# Altium schematic symbol library ti-opamp.SchLib: 45 symbols
Pins are listed as number, name and electrical type; pins without a type are passive.

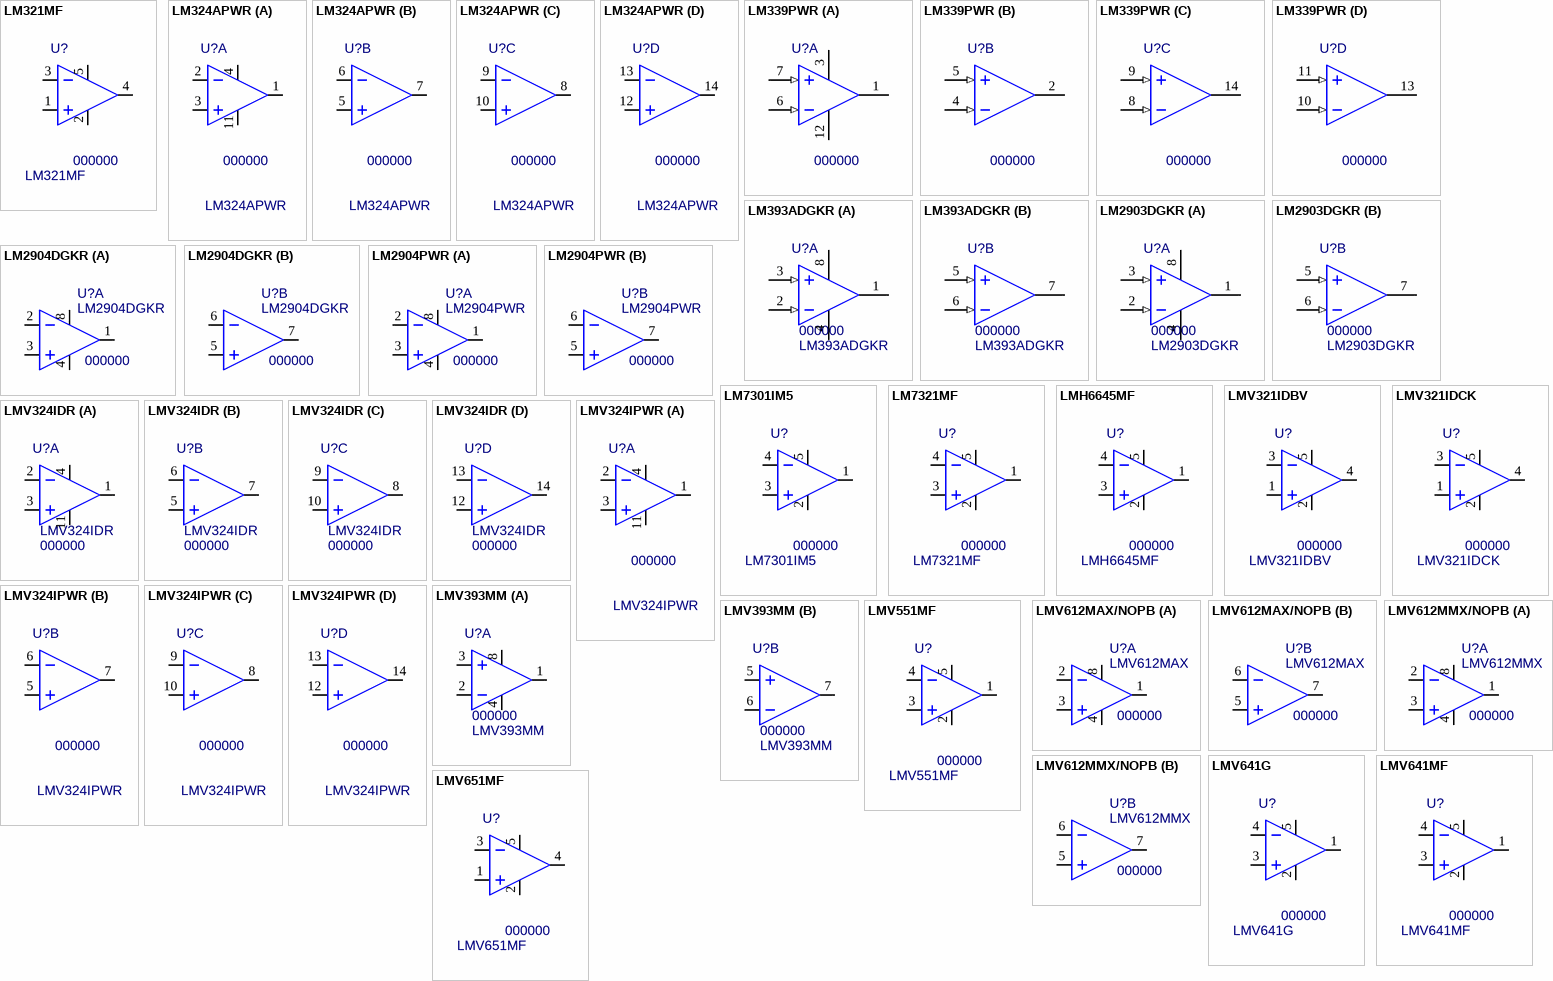
[diagram p0: symbols LM321MF to LMV651MF]

## LM321MF
designator U?, comment 000000  value LM321MF
1MHz, 32V Operational Amplifiers; MF: Texas Instruments; Package: SOT23-5; PN: 000000; ExtraInfo: *
simulation model LM324/NS (SUBCKT)
footprint DBV (R-PDSO-G5) (SOT23, 5-Leads, Body 3.0x3.0mm (max), Pitch 0.95mm, IPC High Density)
pins: 1 IN+, 2 V- (power), 3 IN-, 4 OUT, 5 V+ (power)

## LM324APWR
designator U?, comment 000000  value LM324APWR
Quad General Purpose 1.2MHz Operational Amplifiers; MF: Texas Instruments; PN: 000000; Package: 14-TSSOP; ExtraInfo: *; MF PN: LM324APWR; Digi-Key PN: 296-9544-1-ND; Price: 0.10725
footprint PW (R-PDSO-G14) (TSOP, 14-Leads, Body 5.1x4.5mm (max), Pitch 0.65mm, IPC Medium Density)
footprint PW (R-PDSO-G14) L (TSOP, 14-Leads, Body 5.1x4.5mm (max), Pitch 0.65mm, IPC High Density)
part A pins: 1 1OUT, 2 1IN-, 3 1IN+, 4 VCC+ (power), 11 GND (power)
part B pins: 5 2IN+, 6 2IN-, 7 2OUT
part C pins: 8 3OUT, 9 3IN-, 10 3IN+
part D pins: 12 4IN+, 13 4IN-, 14 4OUT

## LM339PWR
designator U?, comment 000000
Quad Differential Comparator; Value: LM339PWR; MF: Texas Instruments; Package: SOT23; PN: 000000; ExtraInfo: *
footprint PW (R-PDSO-G14) (TSOP, 14-Leads, Body 5.1x4.5mm (max), Pitch 0.65mm, IPC Medium Density)
part A pins: 1 1OUT (oc), 3 VCC (power), 6 1IN- (in), 7 1IN+ (in), 12 GND (power)
part B pins: 2 2OUT (oc), 4 2IN- (in), 5 2IN+ (in)
part C pins: 8 3IN- (in), 9 3IN+ (in), 14 3OUT (oc)
part D pins: 10 4IN- (in), 11 4IN+ (in), 13 4OUT (oc)

## LM393ADGKR
designator U?, comment 000000  value LM393ADGKR
Dual Differential Comparator; MF: Texas Instruments; Package: 8-MSOP; PN: 000000; ExtraInfo: *
footprint DGK (S-PDSO-G8) (8-MSOP)
part A pins: 1 1OUT (oc), 2 1IN- (in), 3 1IN+ (in), 4 GND (power), 8 VCC (power)
part B pins: 5 2IN+ (in), 6 2IN- (in), 7 2OUT (oc)

## LM2903DGKR
designator U?, comment 000000  value LM2903DGKR
Dual Differential Comparator; MF: Texas Instruments; Package: SOT23; PN: 000000; ExtraInfo: *
footprint DGK (R-PDSO-G8) (8-MSOP)
part A pins: 1 1OUT (oc), 2 1IN- (in), 3 1IN+ (in), 4 GND (power), 8 VCC (power)
part B pins: 5 2IN+ (in), 6 2IN- (in), 7 2OUT (oc)

## LM2904DGKR
designator U?, comment 000000  value LM2904DGKR
Dual Operational Amplifier, 0.7MHz; MF: Texas Instruments; Package: 8-VSSOP; PN: 000000; ExtraInfo: *; MF PN: LM2904DGKR
footprint DGK (S-PDSO-G8) M (8-MSOP)
part A pins: 1 OUTA, 2 -INA, 3 +INA, 4 V- (power), 8 V+ (power)
part B pins: 5 +INB, 6 -INB, 7 OUTB

## LM2904PWR
designator U?, comment 000000  value LM2904PWR
Dual Operational Amplifier, 0.7MHz; MF: Texas Instruments; Package: 8-TSSOP; PN: 000000; ExtraInfo: *; MF PN: LM2904PWR
footprint PW (R-PDSO-G8) M (TSOP, 8-Leads, Body 3.1x4.5mm (max), Pitch 0.65mm, IPC Medium Density)
part A pins: 1 OUTA, 2 -INA, 3 +INA, 4 V- (power), 8 V+ (power)
part B pins: 5 +INB, 6 -INB, 7 OUTB

## LM7301IM5
designator U?, comment 000000  value LM7301IM5
4 MHz GBW, Rail-to-Rail Input-Output Operational Amplifier; MF: Texas Instruments; Package: SOT23-5; PN: 000000; ExtraInfo: *
simulation model LM7301/NS (SUBCKT)
footprint DBV (R-PDSO-G5) (SOT23, 5-Leads, Body 3.0x3.0mm (max), Pitch 0.95mm, IPC High Density)
pins: 1 OUT, 2 V- (power), 3 IN+, 4 IN-, 5 V+ (power)

## LM7321MF
designator U?, comment 000000  value LM7321MF
20MHz Rail-to-Rail Input/Output ±15V, High  Output Current and Unlimited Capacitive Load Operational Amplifier; MF: Texas Instruments; Package: SOT23-5; PN: 000000; ExtraInfo: *
simulation model LM7321 (SUBCKT)
footprint DBV (R-PDSO-G5) (SOT23, 5-Leads, Body 3.0x3.0mm (max), Pitch 0.95mm, IPC High Density)
pins: 1 OUT, 2 V- (power), 3 IN+, 4 IN-, 5 V+ (power)

## LMH6645MF
designator U?, comment 000000  value LMH6645MF
55MHz, 650uA, Rail-to-Rail Operational Amplifier; MF: Texas Instruments; Package: SOT23-5; PN: 000000; ExtraInfo: *
simulation model LMH6645 (SUBCKT)
footprint DBV (R-PDSO-G5) (SOT23, 5-Leads, Body 3.0x3.0mm (max), Pitch 0.95mm, IPC High Density)
pins: 1 OUT, 2 V- (power), 3 IN+, 4 IN-, 5 V+ (power)

## LMV321IDBV
designator U?, comment 000000  value LMV321IDBV
General Purpose, Low Voltage, Rail-to-Rail Output Operational Amplifiers; MF: Texas Instruments; Package: SOT23-5; PN: 000000; ExtraInfo: *
simulation model LMV321 (SUBCKT)
footprint DBV (R-PDSO-G5) (SOT23, 5-Leads, Body 3.0x3.0mm (max), Pitch 0.95mm, IPC High Density)
pins: 1 IN+, 2 V- (power), 3 IN-, 4 OUT, 5 V+ (power)

## LMV321IDCK
designator U?, comment 000000  value LMV321IDCK
General Purpose, Low Voltage, Rail-to-Rail Output Operational Amplifiers; MF: Texas Instruments; Package: SOT223-5; PN: 000000; ExtraInfo: *
simulation model LMV321 (SUBCKT)
footprint DCK (R-PDS0-G5) (SOT223, 5-Leads, Body 2.2x2.4mm (max), Pitch 0.65mm, IPC Medium Density)
pins: 1 IN+, 2 V- (power), 3 IN-, 4 OUT, 5 V+ (power)

## LMV324IDR
designator U?, comment 000000  value LMV324IDR
Quad General Purpose, Low Voltage, Rail-to-Rail Output Operational Amplifiers; MF: Texas Instruments; PN: 000000; Package: 14-SOIC; ExtraInfo: *
simulation model LMV321 (SUBCKT)
footprint D (R-PDSO-G14) (Plastic Small Outline 14)
part A pins: 1 1OUT, 2 1IN-, 3 1IN+, 4 VCC+ (power), 11 GND (power)
part B pins: 5 2IN+, 6 2IN-, 7 2OUT
part C pins: 8 3OUT, 9 3IN-, 10 3IN+
part D pins: 12 4IN+, 13 4IN-, 14 4OUT

## LMV324IPWR
designator U?, comment 000000  value LMV324IPWR
Quad General Purpose, Low Voltage, Rail-to-Rail Output Operational Amplifiers; MF: Texas Instruments; PN: 000000; Package: 14-TSSOP; ExtraInfo: *
simulation model LMV321 (SUBCKT)
footprint PW (R-PDSO-G14) (TSOP, 14-Leads, Body 5.1x4.5mm (max), Pitch 0.65mm, IPC Medium Density)
footprint PW (R-PDSO-G14) L (TSOP, 14-Leads, Body 5.1x4.5mm (max), Pitch 0.65mm, IPC High Density)
part A pins: 1 1OUT, 2 1IN-, 3 1IN+, 4 VCC+ (power), 11 GND (power)
part B pins: 5 2IN+, 6 2IN-, 7 2OUT
part C pins: 8 3OUT, 9 3IN-, 10 3IN+
part D pins: 12 4IN+, 13 4IN-, 14 4OUT

## LMV393MM
designator U?, comment 000000  value LMV393MM
Dual Differential Comparator Low Voltage; MF: Texas Instruments; Package: 8-MSOP; PN: 000000; ExtraInfo: *; MF PN: *
footprint DGK (S-PDSO-G8) M (8-MSOP)
part A pins: 1 1OUT (oc), 2 1IN-, 3 1IN+, 4 GND (power), 8 VCC (power)
part B pins: 5 2IN+, 6 2IN-, 7 2OUT (oc)

## LMV551MF
designator U?, comment 000000  value LMV551MF
3 MHz, Micropower RRO Amplifiers; MF: Texas Instruments; Package: SOT23-5; PN: 000000; ExtraInfo: *
footprint DBV (R-PDSO-G5) (SOT23, 5-Leads, Body 3.0x3.0mm (max), Pitch 0.95mm, IPC High Density)
simulation model LMV551 (Rev.a May-2007)
pins: 1 OUT, 2 V- (power), 3 IN+, 4 IN-, 5 V+ (power)

## LMV612MAX/NOPB
designator U?, comment 000000  value LMV612MAX
Dual Operational Amplifier, 1.4MHz, RRIO, Low Power; MF PN: LMV612MAX/NOPB; MF: Texas Instruments; Package: SOIC-8; PN: 000000; ExtraInfo: *
footprint D (R-PDSO-G8) (Plastic Small Outline 8)
part A pins: 1 OUTA, 2 -INA, 3 +INA, 4 V- (power), 8 V+ (power)
part B pins: 5 +INB, 6 -INB, 7 OUTB

## LMV612MMX/NOPB
designator U?, comment 000000  value LMV612MMX
Dual Operational Amplifier, 1.4MHz, RRIO, Low Power; MF PN: LMV612MMX/NOPB; MF: Texas Instruments; Package: 8-VSSOP; PN: 000000; ExtraInfo: *
footprint DGK (S-PDSO-G8) M (8-MSOP)
part A pins: 1 OUTA, 2 -INA, 3 +INA, 4 V- (power), 8 V+ (power)
part B pins: 5 +INB, 6 -INB, 7 OUTB

## LMV641G
designator U?, comment 000000  value LMV641G
10 MHz, Low Voltage, Low Power Amplifiers; MF: Texas Instruments; Package: SC-70; PN: 000000; ExtraInfo: *
footprint DCK (R-PDS0-G5) (SOT223, 5-Leads, Body 2.2x2.4mm (max), Pitch 0.65mm, IPC Medium Density)
simulation model LMV641 (BEGIN MODEL LMV641)
pins: 1 OUT, 2 V- (power), 3 IN+, 4 IN-, 5 V+ (power)

## LMV641MF
designator U?, comment 000000  value LMV641MF
10 MHz, Low Voltage, Low Power Amplifiers; MF: Texas Instruments; Package: SOT23-5; PN: 000000; ExtraInfo: *
footprint DBV (R-PDSO-G5) (SOT23, 5-Leads, Body 3.0x3.0mm (max), Pitch 0.95mm, IPC High Density)
simulation model LMV641 (BEGIN MODEL LMV641)
pins: 1 OUT, 2 V- (power), 3 IN+, 4 IN-, 5 V+ (power)

## LMV651MF
designator U?, comment 000000  value LMV651MF
12 MHz, Low Voltage, Low Power Amplifiers; MF: Texas Instruments; Package: SOT23-5; PN: 000000; ExtraInfo: *
simulation model LMV651 (SUBCKT)
footprint DBV (R-PDSO-G5) (SOT23, 5-Leads, Body 3.0x3.0mm (max), Pitch 0.95mm, IPC High Density)
pins: 1 IN+, 2 V- (power), 3 IN-, 4 OUT, 5 V+ (power)

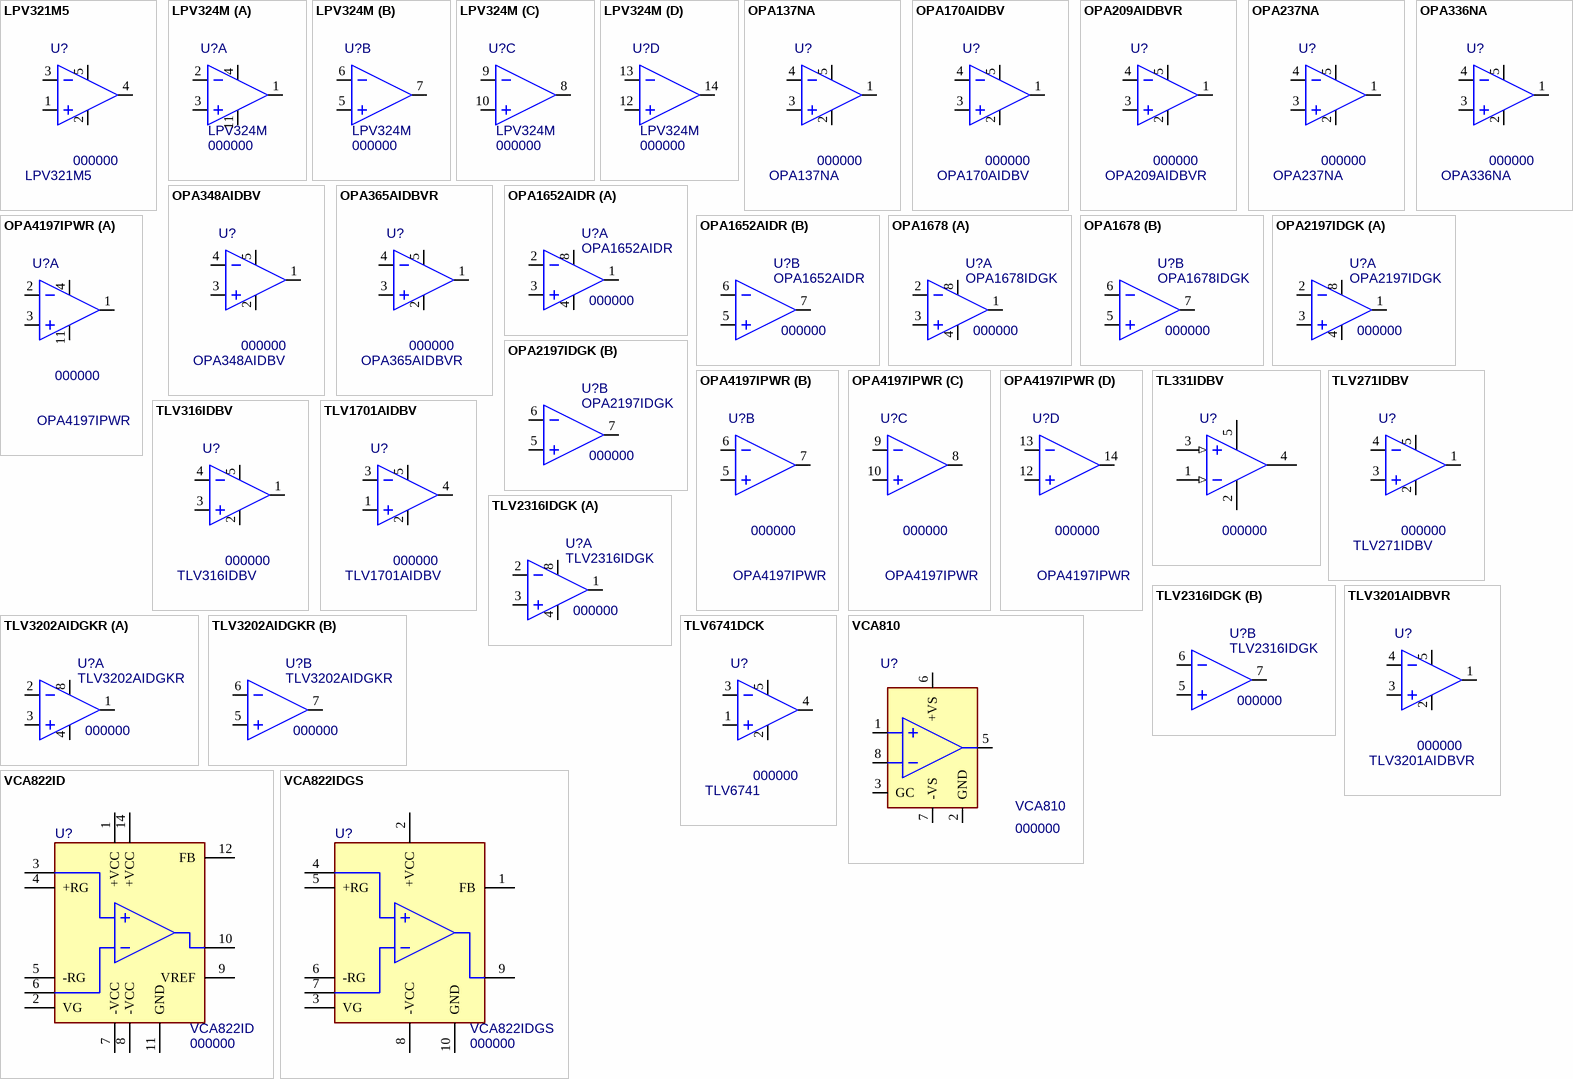
[diagram p1: symbols LPV321M5 to VCA822IDGS]

## LPV321M5
designator U?, comment 000000  value LPV321M5
General Purpose, Low Voltage, Rail-to-Rail Output Operational Amplifiers; MF PN: LPV321M5/NOPB; MF: Texas Instruments; Package: SOT23-5; PN: 000000; ExtraInfo: *
footprint DBV (R-PDSO-G5) M (SOT23, 5-Leads, Body 3.0x3.0mm (max), Pitch 0.95mm, IPC Medium Density)
pins: 1 IN+, 2 V- (power), 3 IN-, 4 OUT, 5 V+ (power)

## LPV324M
designator U?, comment 000000  value LPV324M
Quad Low Power, Low Voltage, Rail-to-Rail Operational Amplifiers; MF PN: LPV324MX/NOPB; MF: Texas Instruments; PN: 000000; Package: 14-SOIC; ExtraInfo: *
simulation model LMV321 (SUBCKT)
footprint D (R-PDSO-G14) (Plastic Small Outline 14)
part A pins: 1 1OUT, 2 1IN-, 3 1IN+, 4 VCC+ (power), 11 GND (power)
part B pins: 5 2IN+, 6 2IN-, 7 2OUT
part C pins: 8 3OUT, 9 3IN-, 10 3IN+
part D pins: 12 4IN+, 13 4IN-, 14 4OUT

## OPA137NA
designator U?, comment 000000  value OPA137NA
1MHz,  Precision, 36V Operational Amplifier; MF: Texas Instruments; Package: SOT23-5; PN: 000000; ExtraInfo: *
simulation model OPA137 (SUBCKT)
footprint DBV (R-PDSO-G5) (SOT23, 5-Leads, Body 3.0x3.0mm (max), Pitch 0.95mm, IPC High Density)
pins: 1 OUT, 2 V- (power), 3 IN+, 4 IN-, 5 V+ (power)

## OPA170AIDBV
designator U?, comment 000000  value OPA170AIDBV
1.2MHz,  Precision, RRO, 36V Operational Amplifier; MF: Texas Instruments; Package: SOT23-5; PN: 000000; ExtraInfo: *
simulation model OPA170 (SUBCKT)
footprint DBV (R-PDSO-G5) (SOT23, 5-Leads, Body 3.0x3.0mm (max), Pitch 0.95mm, IPC High Density)
pins: 1 OUT, 2 V- (power), 3 IN+, 4 IN-, 5 V+ (power)

## OPA209AIDBVR
designator U?, comment 000000  value OPA209AIDBVR
18MHz, Precision, RRO, 36V Operational Amplifier; MF: Texas Instruments; Package: SOT23-5; PN: 000000; ExtraInfo: *
simulation model OPA209_0 (SUBCKT)
footprint DBV (R-PDSO-G5) (SOT23, 5-Leads, Body 3.0x3.0mm (max), Pitch 0.95mm, IPC High Density)
pins: 1 OUT, 2 V- (power), 3 IN+, 4 IN-, 5 V+ (power)

## OPA237NA
designator U?, comment 000000  value OPA237NA
1.5MHz, 36V Operational Amplifier; MF: Texas Instruments; Package: SOT23-5; PN: 000000; ExtraInfo: *
simulation model OPA237 (SUBCKT)
footprint DBV (R-PDSO-G5) (SOT23, 5-Leads, Body 3.0x3.0mm (max), Pitch 0.95mm, IPC High Density)
pins: 1 OUT, 2 V- (power), 3 IN+, 4 IN-, 5 V+ (power)

## OPA336NA
designator U?, comment 000000  value OPA336NA
100KHz, Rail-to-Rail Operational Amplifier; MF: Texas Instruments; Package: SOT23-5; PN: 000000; ExtraInfo: *
simulation model OPA336 (SUBCKT)
footprint DBV (R-PDSO-G5) (SOT23, 5-Leads, Body 3.0x3.0mm (max), Pitch 0.95mm, IPC High Density)
pins: 1 OUT, 2 V- (power), 3 IN+, 4 IN-, 5 V+ (power)

## OPA348AIDBV
designator U?, comment 000000  value OPA348AIDBV
1 MHz, 45uA Low Voltage, RR Operational Amplifier; MF: Texas Instruments; Package: SOT-23; PN: 000000; ExtraInfo: *
footprint DBV (R-PDSO-G5) (SOT23, 5-Leads, Body 3.0x3.0mm (max), Pitch 0.95mm, IPC High Density)
simulation model OPA348
pins: 1 OUT, 2 V- (power), 3 IN+, 4 IN-, 5 V+ (power)

## OPA365AIDBVR
designator U?, comment 000000  value OPA365AIDBVR
50MHz, Low-Distortion, High CMRR,  RRI/O, Single-Supply Operational Amplifier; MF: Texas Instruments; Package: SOT23-5; PN: 000000; ExtraInfo: *
simulation model OPA365 (SUBCKT)
footprint DBV (R-PDSO-G5) (SOT23, 5-Leads, Body 3.0x3.0mm (max), Pitch 0.95mm, IPC High Density)
pins: 1 OUT, 2 V- (power), 3 IN+, 4 IN-, 5 V+ (power)

## OPA1652AIDR
designator U?, comment 000000  value OPA1652AIDR
Dual 18MHz, Audio RRO, 36V Operational Amplifier; MF: Texas Instruments; Package: SOIC-8; PN: 000000; ExtraInfo: *
footprint D (R-PDSO-G8) (Plastic Small Outline 8)
part A pins: 1 OUTA, 2 -INA, 3 +INA, 4 V- (power), 8 V+ (power)
part B pins: 5 +INB, 6 -INB, 7 OUTB

## OPA1678
designator U?, comment 000000  value OPA1678IDGK
Dual 16MHz, RRO, Low Noise, 36V,  Operational Amplifier; MF: Texas Instruments; Package: 8-VSSOP; PN: 000000; ExtraInfo: *; MF PN: OPA1678IDGK; Digi-Key PN: 296-46561-1-ND; Price: 0.54396
footprint DGK (S-PDSO-G8) M (8-MSOP)
part A pins: 1 OUTA, 2 -INA, 3 +INA, 4 V- (power), 8 V+ (power)
part B pins: 5 +INB, 6 -INB, 7 OUTB

## OPA2197IDGK
designator U?, comment 000000  value OPA2197IDGK
Dual Operational Amplifier, 10MHz, RRIO, 36V, Precision; MF: Texas Instruments; Package: 8-VSSOP; PN: 000000; ExtraInfo: *; MF PN: OPA2197IDGK; Digi-Key PN: 296-44071-1-ND; Price: 0.44380
footprint DGK (S-PDSO-G8) M (8-MSOP)
part A pins: 1 OUTA, 2 -INA, 3 +INA, 4 V- (power), 8 V+ (power)
part B pins: 5 +INB, 6 -INB, 7 OUTB

## OPA4197IPWR
designator U?, comment 000000  value OPA4197IPWR
Quad General Purpose 1.2MHz Operational Amplifiers; MF: Texas Instruments; PN: 000000; Package: 14-TSSOP; ExtraInfo: *; MF PN: OPA4197IPWR; Digi-Key PN: 296-45060-1-ND; Price: 1.58004
footprint PW (R-PDSO-G14) (TSOP, 14-Leads, Body 5.1x4.5mm (max), Pitch 0.65mm, IPC Medium Density)
footprint PW (R-PDSO-G14) L (TSOP, 14-Leads, Body 5.1x4.5mm (max), Pitch 0.65mm, IPC High Density)
part A pins: 1 1OUT, 2 1IN-, 3 1IN+, 4 VCC+ (power), 11 GND (power)
part B pins: 5 2IN+, 6 2IN-, 7 2OUT
part C pins: 8 3OUT, 9 3IN-, 10 3IN+
part D pins: 12 4IN+, 13 4IN-, 14 4OUT

## TL331IDBV
designator U?, comment 000000
Single Differential Comparator; Value: TL331IDBV; MF: Texas Instruments; Package: SOT23; PN: 000000; ExtraInfo: *
footprint DBV (R-PDSO-G5) (SOT23, 5-Leads, Body 3.0x3.0mm (max), Pitch 0.95mm, IPC High Density)
pins: 1 IN- (in), 2 GND (power), 3 IN+ (in), 4 OUT (oc), 5 VCC (power)

## TLV271IDBV
designator U?, comment 000000  value TLV271IDBV
3 MHz GBW, 16V Rail-to-Rail Output Operational Amplifier; MF: Texas Instruments; Package: SOT23-5; PN: 000000; ExtraInfo: *
simulation model AMP_TLV27X_HIGHVDD (SUBCKT)
footprint DBV (R-PDSO-G5) (SOT23, 5-Leads, Body 3.0x3.0mm (max), Pitch 0.95mm, IPC High Density)
pins: 1 OUT, 2 V- (power), 3 IN+, 4 IN-, 5 V+ (power)

## TLV316IDBV
designator U?, comment 000000  value TLV316IDBV
10-MHz, Rail-to-Rail Input/Output, Low-Voltage, Operational Amplifier; MF: Texas Instruments; MF PN: TLV316IDBVR; Package: SOT23-5; PN: 000000; ExtraInfo: *; Digi-Key PN: 296-47219-2-ND; Price: 0.30595
footprint DBV (R-PDSO-G5) (SOT23, 5-Leads, Body 3.0x3.0mm (max), Pitch 0.95mm, IPC High Density)
pins: 1 OUT, 2 V- (power), 3 IN+, 4 IN-, 5 V+ (power)

## TLV1701AIDBV
designator U?, comment 000000  value TLV1701AIDBV
Single Comparator, 36V, 55uA, 560ns, Open Collector, Rail-to-Rail; MF PN: TLV1701AIDBVR; Package: SOT-23; PN: 000000; ExtraInfo: *; Digi-Key PN: 296-40599-1-ND; Price: $0.41750
footprint DBV (R-PDSO-G5) (SOT23, 5-Leads, Body 3.0x3.0mm (max), Pitch 0.95mm, IPC High Density)
pins: 1 IN+, 2 V- (power), 3 IN-, 4 OUT, 5 V+ (power)

## TLV2316IDGK
designator U?, comment 000000  value TLV2316IDGK
Dual Operational Amplifier, 10MHz, RRIO, 5V; MF PN: TLV2316IDGKR; MF: Texas Instruments; Package: 8-VSSOP; PN: 000000; ExtraInfo: *
footprint DGK (S-PDSO-G8) M (8-MSOP)
part A pins: 1 OUTA, 2 -INA, 3 +INA, 4 V- (power), 8 V+ (power)
part B pins: 5 +INB, 6 -INB, 7 OUTB

## TLV3201AIDBVR
designator U?, comment 000000  value TLV3201AIDBVR
Single Comparator, Low Power, 40ns, Push-Pull, Rail-to-rail; MF: Texas Instruments; Package: SOT23-5; PN: 000000; ExtraInfo: *
simulation model OPA336 (SUBCKT)
footprint DBV (R-PDSO-G5) (SOT23, 5-Leads, Body 3.0x3.0mm (max), Pitch 0.95mm, IPC High Density)
pins: 1 OUT, 2 V- (power), 3 IN+, 4 IN-, 5 V+ (power)

## TLV3202AIDGKR
designator U?, comment 000000  value TLV3202AIDGKR
Dual Comparator, Low Power, 40ns, Push-Pull, Rail-to-rail; MF: Texas Instruments; Package: VSSOP-8; PN: 000000; ExtraInfo: *
footprint DGK (S-PDSO-G8) (8-MSOP)
part A pins: 1 OUTA, 2 -INA, 3 +INA, 4 V- (power), 8 V+ (power)
part B pins: 5 +INB, 6 -INB, 7 OUTB

## TLV6741DCK
designator U?, comment 000000  value TLV6741
10-MHz, Low Noise, RRO, 5V, Operational Amplifier; MF: Texas Instruments; MF PN: TLV6741DCKT; Package: SOT23-5; PN: 000000; ExtraInfo: *; Digi-Key PN: 296-47564-1-ND; Price: 0.42772
footprint DCK (R-PDS0-G5) (SOT223, 5-Leads, Body 2.2x2.4mm (max), Pitch 0.65mm, IPC Medium Density)
pins: 1 IN+, 2 V- (power), 3 IN-, 4 OUT, 5 V+ (power)

## VCA810
designator U?, comment 000000  value VCA810
High Gain Adjust Range, Wideband,  VARIABLE GAIN AMPLIFIER; MF: Texas Instruments; Package: SOT23-5; PN: 000000; ExtraInfo: *
simulation model VCA810/BB (SUBCKT)
footprint D (R-PDSO-G8) (Plastic Small Outline 8)
pins: 1 IN+, 2 GND (power), 3 GC, 5 OUT, 6 +VS (power), 7 -VS (power), 8 IN-

## VCA822ID
designator U?, comment 000000  value VCA822ID
Wideband, > 40dB Gain Adjust Range, Linear in V/V  VARIABLE GAIN AMPLIFIER; MF: Texas Instruments; Package: MSOP10; PN: 000000; ExtraInfo: *
simulation model VCA822_MODEL (SUBCKT)
pins: 1 +VCC (power), 2 VG, 3 +VIN, 4 +RG, 5 -RG, 6 -VIN, 7 -VCC (power), 8 -VCC (power), 9 VREF (power), 10 VOUT, 11 GND (power), 12 FB, 14 +VCC (power)

## VCA822IDGS
designator U?, comment 000000  value VCA822IDGS
Wideband, > 40dB Gain Adjust Range, Linear in V/V  VARIABLE GAIN AMPLIFIER; MF: Texas Instruments; Package: MSOP10; PN: 000000; ExtraInfo: *
pins: 1 FB, 2 +VCC (power), 3 VG, 4 +vIN, 5 +RG, 6 -RG, 7 -VIN, 8 -VCC (power), 9 VOUT, 10 GND (power)